# Altium footprint library DC电源座.PcbLib: 1 footprints
Each footprint in its own frame and in the unit in brackets; x right, y up, seen from the top. Pads: shape width x height; smd on the part's side, far side on the other; paste and mask are expansions set on the pad; w line width, h text height; cw(c..) or ccw(c..) is an arc to the next point about the centre after c.
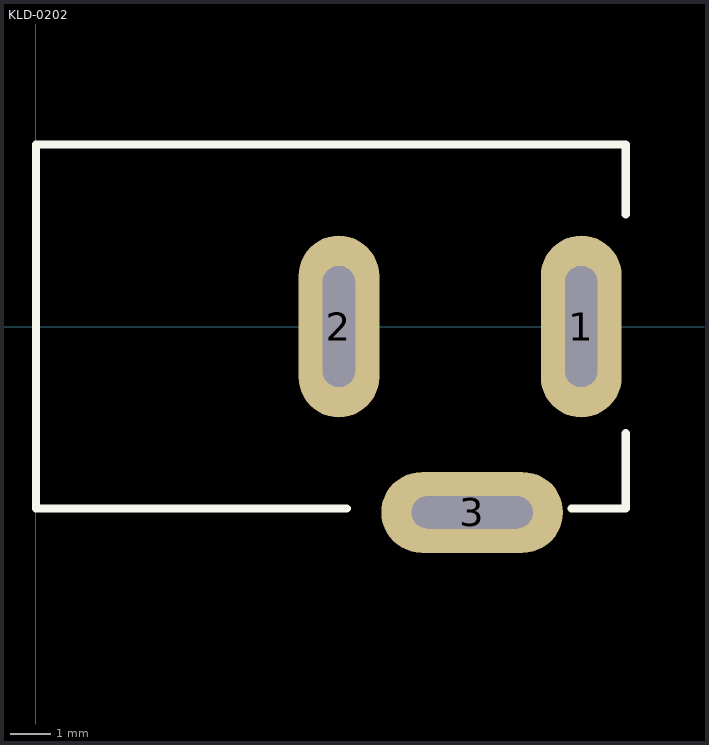
[diagram p0: the footprint, top view; thin cyan lines are the x and y axes]

## KLD-0202 [mm] "DC Power Jack, 2.5mm, KLD Series, PCB Mount"
pads (3):
  oval 2x4.5 hole 0.8 slot 3 at 90 deg: 1(13.5,0) 2(7.5,0)
  oval 4.5x2 hole 0.8 slot 3 at 0 deg: 3(10.8,-4.6)
Top Overlay:
  lines w0.2: 7.696,-4.5 0,-4.5 0,4.5 14.6,4.5 14.6,2.769 ; 13.259,-4.5 14.6,-4.5 14.6,-2.642
Mechanical 1:
  text "Alert PCB fab to slot details" at 0.286,6.066 h0.3
  text "Assign keep-out area to slot" at 0.286,6.566 h0.3
  text "Mech 1 - Slot cut-out" at 0.286,5.566 h0.3
  text "Mech 2 - Clearance, move to internal plane if present" at 0.286,5.066 h0.3
3D body: height 11, standoff -3.9, extent 0,-4.725 14,4.725